# EAGLE library part 10CL016YF484C6G (library ICs)
Cyclone 10 FPGA With 16k Gates, 500kb Memory, 4 PLLs, 137 LVDS Channels and 340 IO in an FPBA484 pin package.
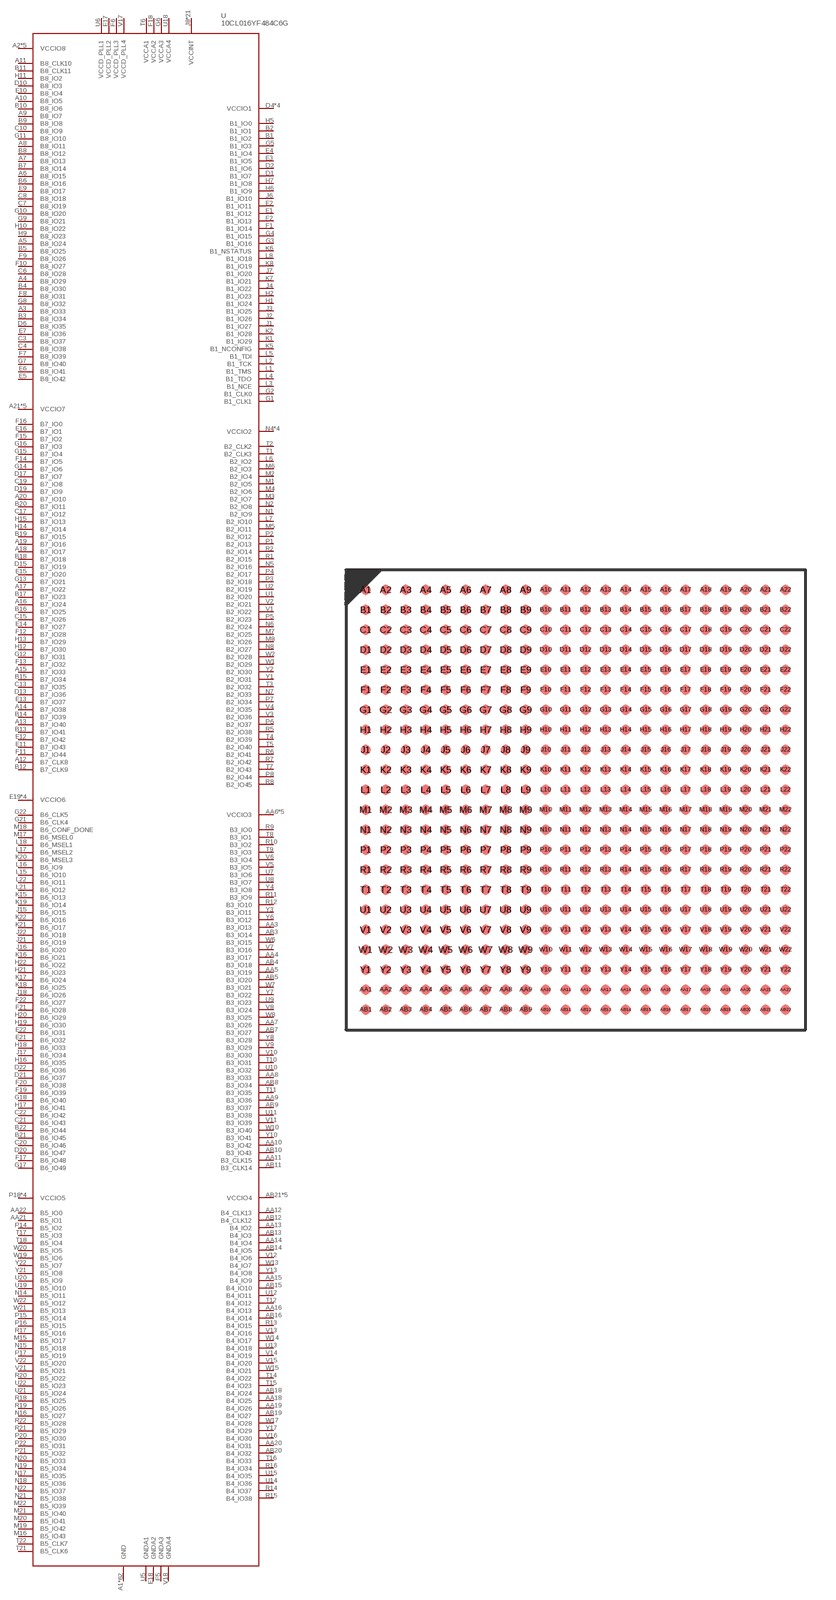
[diagram p196: symbol with the pads of FBGA484; footprint FBGA484]

Designator prefix U

## 10CL016YF484C6G (DIGIKEY: 544-3382-ND; HEIGHT: 2.5; PRICE_PER: 23.27; VALUE: 10CL016YF484C6G)  [FBGA484]
A1  GND
A2  VCCIO8
A3  B8_IO33
A4  B8_IO29
A5  B8_IO24
A6  B8_IO15
A7  B8_IO13
A8  B8_IO11
A9  B8_IO7
A10  B8_IO5
A11  B8_CLK10
A12  B7_CLK8
A13  B7_IO40
A14  B7_IO38
A15  B7_IO33
A16  B7_IO24
A17  B7_IO22
A18  B7_IO17
A19  B7_IO16
A20  B7_IO10
A21  VCCIO7
A22  GND
AA1  GND
AA2  GND
AA3  B3_IO13
AA4  B3_IO17
AA5  B3_IO19
AA6  VCCIO3
AA7  B3_IO26
AA8  B3_IO33
AA9  B3_IO36
AA10  B3_IO42
AA11  B3_CLK15
AA12  B4_CLK13
AA13  B4_IO2
AA14  B4_IO4
AA15  B4_IO9
AA16  B4_IO13
AA17  GND
AA18  B4_IO25
AA19  B4_IO26
AA20  B4_IO31
AA21  B5_IO1
AA22  B5_IO0
AB1  GND
AB2  VCCIO3
AB3  B3_IO14
AB4  B3_IO18
AB5  B3_IO20
AB6  GND
AB7  B3_IO27
AB8  B3_IO34
AB9  B3_IO37
AB10  B3_IO43
AB11  B3_CLK14
AB12  B4_CLK12
AB13  B4_IO3
AB14  B4_IO5
AB15  B4_IO10
AB16  B4_IO14
AB17  GND
AB18  B4_IO24
AB19  B4_IO27
AB20  B4_IO32
AB21  VCCIO4
AB22  GND
B1  B1_IO2
B2  B1_IO1
B3  B8_IO34
B4  B8_IO30
B5  B8_IO25
B6  B8_IO16
B7  B8_IO14
B8  B8_IO12
B9  B8_IO8
B10  B8_IO6
B11  B8_CLK11
B12  B7_CLK9
B13  B7_IO41
B14  B7_IO39
B15  B7_IO34
B16  B7_IO25
B17  B7_IO23
B18  B7_IO18
B19  B7_IO15
B20  B7_IO11
B21  B6_IO45
B22  B6_IO44
C1  GND
C2  GND
C3  B8_IO37
C4  B8_IO38
C5  GND
C6  B8_IO28
C7  B8_IO19
C8  B8_IO18
C9  GND
C10  B8_IO9
C11  GND
C12  GND
C13  B7_IO35
C14  GND
C15  B7_IO26
C16  GND
C17  B7_IO12
C18  GND
C19  B7_IO8
C20  B6_IO46
C21  B6_IO43
C22  B6_IO42
D1  B1_IO7
D2  B1_IO6
D3  GND
D4  VCCIO1
D5  VCCIO8
D6  B8_IO35
D7  GND
D8  GND
D9  VCCIO8
D10  B8_IO3
D11  VCCIO8
D12  VCCIO7
D13  B7_IO36
D14  VCCIO7
D15  B7_IO19
D16  VCCIO7
D17  B7_IO7
D18  VCCIO7
D19  B7_IO9
D20  B6_IO47
D21  B6_IO37
D22  B6_IO36
E1  B1_IO12
E2  B1_IO11
E3  B1_IO5
E4  B1_IO4
E5  B8_IO42
E6  B8_IO41
E7  B8_IO36
E8  VCCIO8
E9  B8_IO17
E10  B8_IO4
E11  B7_IO43
E12  B7_IO42
E13  B7_IO37
E14  B7_IO27
E15  B7_IO20
E16  B7_IO1
E17  VCCD_PLL2
E18  GNDA2
E19  VCCIO6
E20  GND
E21  B6_IO32
E22  B6_IO31
F1  B1_IO14
F2  B1_IO13
F3  GND
F4  VCCIO1
F5  GNDA3
F6  VCCD_PLL3
F7  B8_IO39
F8  B8_IO31
F9  B8_IO26
F10  B8_IO27
F11  B7_IO44
F12  B7_IO28
F13  B7_IO32
F14  B7_IO5
F15  B7_IO2
F16  B7_IO0
F17  B6_IO48
F18  VCCA2
F19  B6_IO39
F20  B6_IO38
F21  B6_IO28
F22  B6_IO27
G1  B1_CLK1
G2  B1_CLK0
G3  B1_IO16
G4  B1_IO15
G5  B1_IO3
G6  VCCA3
G7  B8_IO40
G8  B8_IO32
G9  B8_IO21
G10  B8_IO20
G11  B8_IO10
G12  B7_IO31
G13  B7_IO21
G14  B7_IO6
G15  B7_IO4
G16  B7_IO3
G17  B6_IO49
G18  B6_IO40
G19  VCCIO6
G20  GND
G21  B6_CLK4
G22  B6_CLK5
H1  B1_IO24
H2  B1_IO23
H3  GND
H4  VCCIO1
H5  B1_IO0
H6  B1_IO9
H7  B1_IO8
H8  GND
H9  B8_IO23
H10  B8_IO22
H11  B8_IO2
H12  B7_IO30
H13  B7_IO29
H14  B7_IO14
H15  B7_IO13
H16  B6_IO35
H17  B6_IO41
H18  B6_IO33
H19  B6_IO30
H20  B6_IO29
H21  B6_IO23
H22  B6_IO22
J1  B1_IO27
J2  B1_IO26
J3  B1_IO25
J4  B1_IO22
J5  GND
J6  B1_IO10
J7  B1_IO20
J8  VCCINT
J9  GND
J10  VCCINT
J11  VCCINT
J12  VCCINT
J13  VCCINT
J14  VCCINT
J15  B6_IO15
J16  B6_IO20
J17  B6_IO34
J18  B6_IO26
J19  GND
J20  VCCIO6
J21  B6_IO19
J22  B6_IO18
K1  B1_IO29
K2  B1_IO28
K3  GND
K4  VCCIO1
K5  B1_NCONFIG
K6  B1_NSTATUS
K7  B1_IO21
K8  B1_IO19
K9  VCCINT
K10  GND
K11  GND
K12  GND
K13  GND
K14  VCCINT
K15  B6_IO13
K16  B6_IO21
K17  B6_IO24
K18  B6_IO25
K19  B6_IO14
K20  B6_MSEL3
K21  B6_IO17
K22  B6_IO16
L1  B1_TMS
L2  B1_TCK
L3  B1_NCE
L4  B1_TDO
L5  B1_TDI
L6  B2_IO2
L7  B2_IO10
L8  B1_IO18
L9  VCCINT
L10  GND
L11  GND
L12  GND
L13  GND
L14  VCCINT
L15  B6_IO10
L16  B6_IO9
L17  B6_MSEL2
L18  B6_MSEL1
L19  VCCIO6
L20  GND
L21  B6_IO12
L22  B6_IO11
M1  B2_IO5
M2  B2_IO4
M3  B2_IO7
M4  B2_IO6
M5  B2_IO11
M6  B2_IO3
M7  B2_IO25
M8  B2_IO26
M9  VCCINT
M10  GND
M11  GND
M12  GND
M13  GND
M14  VCCINT
M15  B5_IO17
M16  B5_IO43
M17  B6_MSEL0
M18  B6_CONF_DONE
M19  B5_IO42
M20  B5_IO41
M21  B5_IO40
M22  B5_IO39
N1  B2_IO9
N2  B2_IO8
N3  GND
N4  VCCIO2
N5  B2_IO16
N6  B2_IO24
N7  B2_IO33
N8  B2_IO27
N9  VCCINT
N10  GND
N11  GND
N12  GND
N13  GND
N14  B5_IO11
N15  B5_IO18
N16  B5_IO27
N17  B5_IO35
N18  B5_IO36
N19  B5_IO34
N20  B5_IO33
N21  B5_IO38
N22  B5_IO37
P1  B2_IO13
P2  B2_IO12
P3  B2_IO18
P4  B2_IO17
P5  B2_IO23
P6  B2_IO37
P7  B2_IO34
P8  B2_IO44
P9  VCCINT
P10  VCCINT
P11  VCCINT
P12  VCCINT
P13  VCCINT
P14  B5_IO2
P15  B5_IO14
P16  B5_IO15
P17  B5_IO19
P18  VCCIO5
P19  GND
P20  B5_IO30
P21  B5_IO32
P22  B5_IO31
R1  B2_IO15
R2  B2_IO14
R3  GND
R4  VCCIO2
R5  B2_IO38
R6  B2_IO41
R7  B2_IO42
R8  B2_IO45
R9  B3_IO0
R10  B3_IO2
R11  B3_IO9
R12  B3_IO10
R13  B4_IO15
R14  B4_IO37
R15  B4_IO38
R16  B4_IO34
R17  B5_IO16
R18  B5_IO25
R19  B5_IO26
R20  B5_IO22
R21  B5_IO29
R22  B5_IO28
T1  B2_CLK3
T2  B2_CLK2
T3  B2_IO32
T4  B2_IO39
T5  B2_IO40
T6  VCCA1
T7  B2_IO43
T8  B3_IO1
T9  B3_IO3
T10  B3_IO31
T11  B3_IO35
T12  B4_IO12
T13  VCCINT
T14  B4_IO22
T15  B4_IO23
T16  B4_IO33
T17  B5_IO3
T18  B5_IO4
T19  VCCIO5
T20  GND
T21  B5_CLK6
T22  B5_CLK7
U1  B2_IO20
U2  B2_IO19
U3  GND
U4  VCCIO2
U5  GNDA1
U6  VCCD_PLL1
U7  B3_IO6
U8  B3_IO7
U9  B3_IO23
U10  B3_IO32
U11  B3_IO38
U12  B4_IO11
U13  B4_IO18
U14  B4_IO36
U15  B4_IO35
U16  VCCINT
U17  VCCINT
U18  VCCA4
U19  B5_IO10
U20  B5_IO9
U21  B5_IO24
U22  B5_IO23
V1  B2_IO22
V2  B2_IO21
V3  B2_IO36
V4  B2_IO35
V5  B3_IO5
V6  B3_IO4
V7  B3_IO16
V8  B3_IO24
V9  B3_IO29
V10  B3_IO30
V11  B3_IO39
V12  B4_IO6
V13  B4_IO16
V14  B4_IO19
V15  B4_IO20
V16  B4_IO30
V17  VCCD_PLL4
V18  GNDA4
V19  VCCIO5
V20  GND
V21  B5_IO21
V22  B5_IO20
W1  B2_IO29
W2  B2_IO28
W3  GND
W4  VCCIO2
W5  VCCIO3
W6  B3_IO15
W7  B3_IO21
W8  B3_IO25
W9  VCCIO3
W10  B3_IO40
W11  VCCIO3
W12  VCCIO4
W13  B4_IO7
W14  B4_IO17
W15  B4_IO21
W16  VCCIO4
W17  B4_IO28
W18  VCCIO4
W19  B5_IO6
W20  B5_IO5
W21  B5_IO13
W22  B5_IO12
Y1  B2_IO31
Y2  B2_IO30
Y3  B3_IO11
Y4  B3_IO8
Y5  GND
Y6  B3_IO12
Y7  B3_IO22
Y8  B3_IO28
Y9  GND
Y10  B3_IO41
Y11  GND
Y12  GND
Y13  B4_IO8
Y14  VCCIO4
Y15  GND
Y16  GND
Y17  B4_IO29
Y18  GND
Y19  VCCIO5
Y20  GND
Y21  B5_IO8
Y22  B5_IO7

## Footprint FBGA484 (pad centres in mm)
smd 0.5 x 0.5: A1 -10.5,10.5; A2 -9.5,10.5; A3 -8.5,10.5; A4 -7.5,10.5; A5 -6.5,10.5; A6 -5.5,10.5; A7 -4.5,10.5; A8 -3.5,10.5; A9 -2.5,10.5; A10 -1.5,10.5; A11 -0.5,10.5; A12 0.5,10.5; A13 1.5,10.5; A14 2.5,10.5; A15 3.5,10.5; A16 4.5,10.5; A17 5.5,10.5; A18 6.5,10.5; A19 7.5,10.5; A20 8.5,10.5; A21 9.5,10.5; A22 10.5,10.5; AA1 -10.5,-9.5; AA2 -9.5,-9.5; AA3 -8.5,-9.5; AA4 -7.5,-9.5; AA5 -6.5,-9.5; AA6 -5.5,-9.5; AA7 -4.5,-9.5; AA8 -3.5,-9.5; AA9 -2.5,-9.5; AA10 -1.5,-9.5; AA11 -0.5,-9.5; AA12 0.5,-9.5; AA13 1.5,-9.5; AA14 2.5,-9.5; AA15 3.5,-9.5; AA16 4.5,-9.5; AA17 5.5,-9.5; AA18 6.5,-9.5; AA19 7.5,-9.5; AA20 8.5,-9.5; AA21 9.5,-9.5; AA22 10.5,-9.5; AB1 -10.5,-10.5; AB2 -9.5,-10.5; AB3 -8.5,-10.5; AB4 -7.5,-10.5; AB5 -6.5,-10.5; AB6 -5.5,-10.5; AB7 -4.5,-10.5; AB8 -3.5,-10.5; AB9 -2.5,-10.5; AB10 -1.5,-10.5; AB11 -0.5,-10.5; AB12 0.5,-10.5; AB13 1.5,-10.5; AB14 2.5,-10.5; AB15 3.5,-10.5; AB16 4.5,-10.5; AB17 5.5,-10.5; AB18 6.5,-10.5; AB19 7.5,-10.5; AB20 8.5,-10.5; AB21 9.5,-10.5; AB22 10.5,-10.5; B1 -10.5,9.5; B2 -9.5,9.5; B3 -8.5,9.5; B4 -7.5,9.5; B5 -6.5,9.5; B6 -5.5,9.5; B7 -4.5,9.5; B8 -3.5,9.5; B9 -2.5,9.5; B10 -1.5,9.5; B11 -0.5,9.5; B12 0.5,9.5; B13 1.5,9.5; B14 2.5,9.5; B15 3.5,9.5; B16 4.5,9.5; B17 5.5,9.5; B18 6.5,9.5; B19 7.5,9.5; B20 8.5,9.5; B21 9.5,9.5; B22 10.5,9.5; C1 -10.5,8.5; C2 -9.5,8.5; C3 -8.5,8.5; C4 -7.5,8.5; C5 -6.5,8.5; C6 -5.5,8.5; C7 -4.5,8.5; C8 -3.5,8.5; C9 -2.5,8.5; C10 -1.5,8.5; C11 -0.5,8.5; C12 0.5,8.5; C13 1.5,8.5; C14 2.5,8.5; C15 3.5,8.5; C16 4.5,8.5; C17 5.5,8.5; C18 6.5,8.5; C19 7.5,8.5; C20 8.5,8.5; C21 9.5,8.5; C22 10.5,8.5; D1 -10.5,7.5; D2 -9.5,7.5; D3 -8.5,7.5; D4 -7.5,7.5; D5 -6.5,7.5; D6 -5.5,7.5; D7 -4.5,7.5; D8 -3.5,7.5; D9 -2.5,7.5; D10 -1.5,7.5; D11 -0.5,7.5; D12 0.5,7.5; D13 1.5,7.5; D14 2.5,7.5; D15 3.5,7.5; D16 4.5,7.5; D17 5.5,7.5; D18 6.5,7.5; D19 7.5,7.5; D20 8.5,7.5; D21 9.5,7.5; D22 10.5,7.5; E1 -10.5,6.5; E2 -9.5,6.5; E3 -8.5,6.5; E4 -7.5,6.5; E5 -6.5,6.5; E6 -5.5,6.5; E7 -4.5,6.5; E8 -3.5,6.5; E9 -2.5,6.5; E10 -1.5,6.5; E11 -0.5,6.5; E12 0.5,6.5; E13 1.5,6.5; E14 2.5,6.5; E15 3.5,6.5; E16 4.5,6.5; E17 5.5,6.5; E18 6.5,6.5; E19 7.5,6.5; E20 8.5,6.5; E21 9.5,6.5; E22 10.5,6.5; F1 -10.5,5.5; F2 -9.5,5.5; F3 -8.5,5.5; F4 -7.5,5.5; F5 -6.5,5.5; F6 -5.5,5.5; F7 -4.5,5.5; F8 -3.5,5.5; F9 -2.5,5.5; F10 -1.5,5.5; F11 -0.5,5.5; F12 0.5,5.5; F13 1.5,5.5; F14 2.5,5.5; F15 3.5,5.5; F16 4.5,5.5; F17 5.5,5.5; F18 6.5,5.5; F19 7.5,5.5; F20 8.5,5.5; F21 9.5,5.5; F22 10.5,5.5; G1 -10.5,4.5; G2 -9.5,4.5; G3 -8.5,4.5; G4 -7.5,4.5; G5 -6.5,4.5; G6 -5.5,4.5; G7 -4.5,4.5; G8 -3.5,4.5; G9 -2.5,4.5; G10 -1.5,4.5; G11 -0.5,4.5; G12 0.5,4.5; G13 1.5,4.5; G14 2.5,4.5; G15 3.5,4.5; G16 4.5,4.5; G17 5.5,4.5; G18 6.5,4.5; G19 7.5,4.5; G20 8.5,4.5; G21 9.5,4.5; G22 10.5,4.5; H1 -10.5,3.5; H2 -9.5,3.5; H3 -8.5,3.5; H4 -7.5,3.5; H5 -6.5,3.5; H6 -5.5,3.5; H7 -4.5,3.5; H8 -3.5,3.5; H9 -2.5,3.5; H10 -1.5,3.5; H11 -0.5,3.5; H12 0.5,3.5; H13 1.5,3.5; H14 2.5,3.5; H15 3.5,3.5; H16 4.5,3.5; H17 5.5,3.5; H18 6.5,3.5; H19 7.5,3.5; H20 8.5,3.5; H21 9.5,3.5; H22 10.5,3.5; J1 -10.5,2.5; J2 -9.5,2.5; J3 -8.5,2.5; J4 -7.5,2.5; J5 -6.5,2.5; J6 -5.5,2.5; J7 -4.5,2.5; J8 -3.5,2.5; J9 -2.5,2.5; J10 -1.5,2.5; J11 -0.5,2.5; J12 0.5,2.5; J13 1.5,2.5; J14 2.5,2.5; J15 3.5,2.5; J16 4.5,2.5; J17 5.5,2.5; J18 6.5,2.5; J19 7.5,2.5; J20 8.5,2.5; J21 9.5,2.5; J22 10.5,2.5; K1 -10.5,1.5; K2 -9.5,1.5; K3 -8.5,1.5; K4 -7.5,1.5; K5 -6.5,1.5; K6 -5.5,1.5; K7 -4.5,1.5; K8 -3.5,1.5; K9 -2.5,1.5; K10 -1.5,1.5; K11 -0.5,1.5; K12 0.5,1.5; K13 1.5,1.5; K14 2.5,1.5; K15 3.5,1.5; K16 4.5,1.5; K17 5.5,1.5; K18 6.5,1.5; K19 7.5,1.5; K20 8.5,1.5; K21 9.5,1.5; K22 10.5,1.5; L1 -10.5,0.5; L2 -9.5,0.5; L3 -8.5,0.5; L4 -7.5,0.5; L5 -6.5,0.5; L6 -5.5,0.5; L7 -4.5,0.5; L8 -3.5,0.5; L9 -2.5,0.5; L10 -1.5,0.5; L11 -0.5,0.5; L12 0.5,0.5; L13 1.5,0.5; L14 2.5,0.5; L15 3.5,0.5; L16 4.5,0.5; L17 5.5,0.5; L18 6.5,0.5; L19 7.5,0.5; L20 8.5,0.5; L21 9.5,0.5; L22 10.5,0.5; M1 -10.5,-0.5; M2 -9.5,-0.5; M3 -8.5,-0.5; M4 -7.5,-0.5; M5 -6.5,-0.5; M6 -5.5,-0.5; M7 -4.5,-0.5; M8 -3.5,-0.5; M9 -2.5,-0.5; M10 -1.5,-0.5; M11 -0.5,-0.5; M12 0.5,-0.5; M13 1.5,-0.5; M14 2.5,-0.5; M15 3.5,-0.5; M16 4.5,-0.5; M17 5.5,-0.5; M18 6.5,-0.5; M19 7.5,-0.5; M20 8.5,-0.5; M21 9.5,-0.5; M22 10.5,-0.5; N1 -10.5,-1.5; N2 -9.5,-1.5; N3 -8.5,-1.5; N4 -7.5,-1.5; N5 -6.5,-1.5; N6 -5.5,-1.5; N7 -4.5,-1.5; N8 -3.5,-1.5; N9 -2.5,-1.5; N10 -1.5,-1.5; N11 -0.5,-1.5; N12 0.5,-1.5; N13 1.5,-1.5; N14 2.5,-1.5; N15 3.5,-1.5; N16 4.5,-1.5; N17 5.5,-1.5; N18 6.5,-1.5; N19 7.5,-1.5; N20 8.5,-1.5; N21 9.5,-1.5; N22 10.5,-1.5; P1 -10.5,-2.5; P2 -9.5,-2.5; P3 -8.5,-2.5; P4 -7.5,-2.5; P5 -6.5,-2.5; P6 -5.5,-2.5; P7 -4.5,-2.5; P8 -3.5,-2.5; P9 -2.5,-2.5; P10 -1.5,-2.5; P11 -0.5,-2.5; P12 0.5,-2.5; P13 1.5,-2.5; P14 2.5,-2.5; P15 3.5,-2.5; P16 4.5,-2.5; P17 5.5,-2.5; P18 6.5,-2.5; P19 7.5,-2.5; P20 8.5,-2.5; P21 9.5,-2.5; P22 10.5,-2.5; R1 -10.5,-3.5; R2 -9.5,-3.5; R3 -8.5,-3.5; R4 -7.5,-3.5; R5 -6.5,-3.5; R6 -5.5,-3.5; R7 -4.5,-3.5; R8 -3.5,-3.5; R9 -2.5,-3.5; R10 -1.5,-3.5; R11 -0.5,-3.5; R12 0.5,-3.5; R13 1.5,-3.5; R14 2.5,-3.5; R15 3.5,-3.5; R16 4.5,-3.5; R17 5.5,-3.5; R18 6.5,-3.5; R19 7.5,-3.5; R20 8.5,-3.5; R21 9.5,-3.5; R22 10.5,-3.5; T1 -10.5,-4.5; T2 -9.5,-4.5; T3 -8.5,-4.5; T4 -7.5,-4.5; T5 -6.5,-4.5; T6 -5.5,-4.5; T7 -4.5,-4.5; T8 -3.5,-4.5; T9 -2.5,-4.5; T10 -1.5,-4.5; T11 -0.5,-4.5; T12 0.5,-4.5; T13 1.5,-4.5; T14 2.5,-4.5; T15 3.5,-4.5; T16 4.5,-4.5; T17 5.5,-4.5; T18 6.5,-4.5; T19 7.5,-4.5; T20 8.5,-4.5; T21 9.5,-4.5; T22 10.5,-4.5; U1 -10.5,-5.5; U2 -9.5,-5.5; U3 -8.5,-5.5; U4 -7.5,-5.5; U5 -6.5,-5.5; U6 -5.5,-5.5; U7 -4.5,-5.5; U8 -3.5,-5.5; U9 -2.5,-5.5; U10 -1.5,-5.5; U11 -0.5,-5.5; U12 0.5,-5.5; U13 1.5,-5.5; U14 2.5,-5.5; U15 3.5,-5.5; U16 4.5,-5.5; U17 5.5,-5.5; U18 6.5,-5.5; U19 7.5,-5.5; U20 8.5,-5.5; U21 9.5,-5.5; U22 10.5,-5.5; V1 -10.5,-6.5; V2 -9.5,-6.5; V3 -8.5,-6.5; V4 -7.5,-6.5; V5 -6.5,-6.5; V6 -5.5,-6.5; V7 -4.5,-6.5; V8 -3.5,-6.5; V9 -2.5,-6.5; V10 -1.5,-6.5; V11 -0.5,-6.5; V12 0.5,-6.5; V13 1.5,-6.5; V14 2.5,-6.5; V15 3.5,-6.5; V16 4.5,-6.5; V17 5.5,-6.5; V18 6.5,-6.5; V19 7.5,-6.5; V20 8.5,-6.5; V21 9.5,-6.5; V22 10.5,-6.5; W1 -10.5,-7.5; W2 -9.5,-7.5; W3 -8.5,-7.5; W4 -7.5,-7.5; W5 -6.5,-7.5; W6 -5.5,-7.5; W7 -4.5,-7.5; W8 -3.5,-7.5; W9 -2.5,-7.5; W10 -1.5,-7.5; W11 -0.5,-7.5; W12 0.5,-7.5; W13 1.5,-7.5; W14 2.5,-7.5; W15 3.5,-7.5; W16 4.5,-7.5; W17 5.5,-7.5; W18 6.5,-7.5; W19 7.5,-7.5; W20 8.5,-7.5; W21 9.5,-7.5; W22 10.5,-7.5; Y1 -10.5,-8.5; Y2 -9.5,-8.5; Y3 -8.5,-8.5; Y4 -7.5,-8.5; Y5 -6.5,-8.5; Y6 -5.5,-8.5; Y7 -4.5,-8.5; Y8 -3.5,-8.5; Y9 -2.5,-8.5; Y10 -1.5,-8.5; Y11 -0.5,-8.5; Y12 0.5,-8.5; Y13 1.5,-8.5; Y14 2.5,-8.5; Y15 3.5,-8.5; Y16 4.5,-8.5; Y17 5.5,-8.5; Y18 6.5,-8.5; Y19 7.5,-8.5; Y20 8.5,-8.5; Y21 9.5,-8.5; Y22 10.5,-8.5